# EAGLE library part ATXMEGA128B3 (library ds_ic_mcu)
8/16-bit Atmel XMEGA B3 Microcontroller
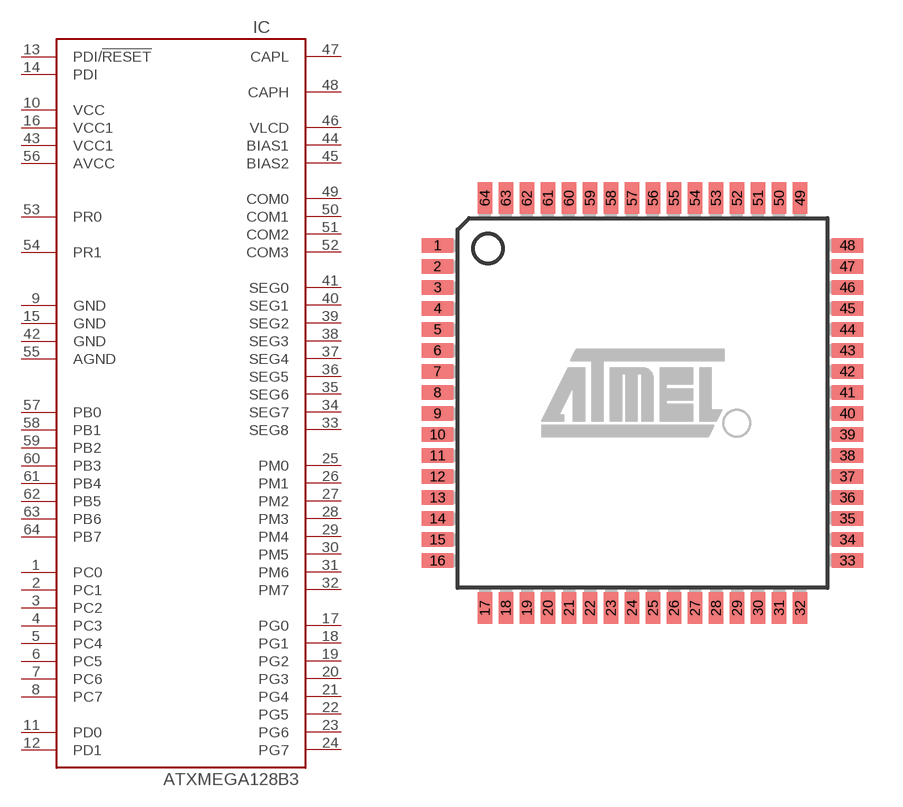
[diagram p5: symbol with the pads of TQFP64; footprint TQFP64]

Designator prefix IC

## ATXMEGA128B3  [TQFP64]
1  PC0
2  PC1
3  PC2
4  PC3
5  PC4
6  PC5
7  PC6
8  PC7
9  GND
10  VCC
11  PD0
12  PD1
13  PDI/!RESET
14  PDI
15  GND
16  VCC1
17  PG0
18  PG1
19  PG2
20  PG3
21  PG4
22  PG5
23  PG6
24  PG7
25  PM0
26  PM1
27  PM2
28  PM3
29  PM4
30  PM5
31  PM6
32  PM7
33  SEG8
34  SEG7
35  SEG6
36  SEG5
37  SEG4
38  SEG3
39  SEG2
40  SEG1
41  SEG0
42  GND
43  VCC1
44  BIAS1
45  BIAS2
46  VLCD
47  CAPL
48  CAPH
49  COM0
50  COM1
51  COM2
52  COM3
53  PR0
54  PR1
55  AGND
56  AVCC
57  PB0
58  PB1
59  PB2
60  PB3
61  PB4
62  PB5
63  PB6
64  PB7

## Footprint TQFP64 (pad centres in mm)
smd 1.194 x 0.559: 1 -7.8,6; 2 -7.8,5.2; 3 -7.8,4.4; 4 -7.8,3.6; 5 -7.8,2.8; 6 -7.8,2; 7 -7.8,1.2; 8 -7.8,0.4; 9 -7.8,-0.4; 10 -7.8,-1.2; 11 -7.8,-2; 12 -7.8,-2.8; 13 -7.8,-3.6; 14 -7.8,-4.4; 15 -7.8,-5.2; 16 -7.8,-6; 33 7.8,-6; 34 7.8,-5.2; 35 7.8,-4.4; 36 7.8,-3.6; 37 7.8,-2.8; 38 7.8,-2; 39 7.8,-1.2; 40 7.8,-0.4; 41 7.8,0.4; 42 7.8,1.2; 43 7.8,2; 44 7.8,2.8; 45 7.8,3.6; 46 7.8,4.4; 47 7.8,5.2; 48 7.8,6
smd 0.559 x 1.194: 17 -6,-7.8; 18 -5.2,-7.8; 19 -4.4,-7.8; 20 -3.6,-7.8; 21 -2.8,-7.8; 22 -2,-7.8; 23 -1.2,-7.8; 24 -0.4,-7.8; 25 0.4,-7.8; 26 1.2,-7.8; 27 2,-7.8; 28 2.8,-7.8; 29 3.6,-7.8; 30 4.4,-7.8; 31 5.2,-7.8; 32 6,-7.8; 49 6,7.8; 50 5.2,7.8; 51 4.4,7.8; 52 3.6,7.8; 53 2.8,7.8; 54 2,7.8; 55 1.2,7.8; 56 0.4,7.8; 57 -0.4,7.8; 58 -1.2,7.8; 59 -2,7.8; 60 -2.8,7.8; 61 -3.6,7.8; 62 -4.4,7.8; 63 -5.2,7.8; 64 -6,7.8